# EAGLE library part CHRONO_FE11-1 (library chrono)
FEMALE HEADER
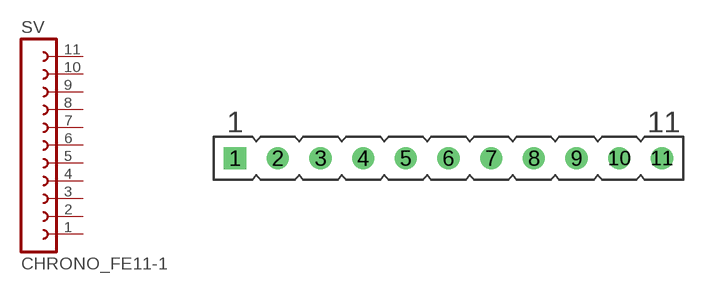
[diagram p5: symbol with the pads of CHRONO_FE11; footprint CHRONO_FE11]

Designator prefix SV

## CHRONO_FE11-1 (OC_FARNELL: unknown; OC_NEWARK: unknown)  [CHRONO_FE11]
1  1  pas
2  2  pas
3  3  pas
4  4  pas
5  5  pas
6  6  pas
7  7  pas
8  8  pas
9  9  pas
10  10  pas
11  11  pas

## Footprint CHRONO_FE11 (pad centres in mm)
FEMALE HEADER
drill 0.813 square: 1 -13.97,0
drill 0.813: 2 -11.43,0; 3 -8.89,0; 4 -6.35,0; 5 -3.81,0; 6 -1.27,0; 7 1.27,0; 8 3.81,0; 9 6.35,0; 10 8.89,0; 11 11.43,0